# Altium schematic symbol library CurrentSensor.SchLib: 5 symbols
Pins are listed as number, name and electrical type; pins without a type are passive.

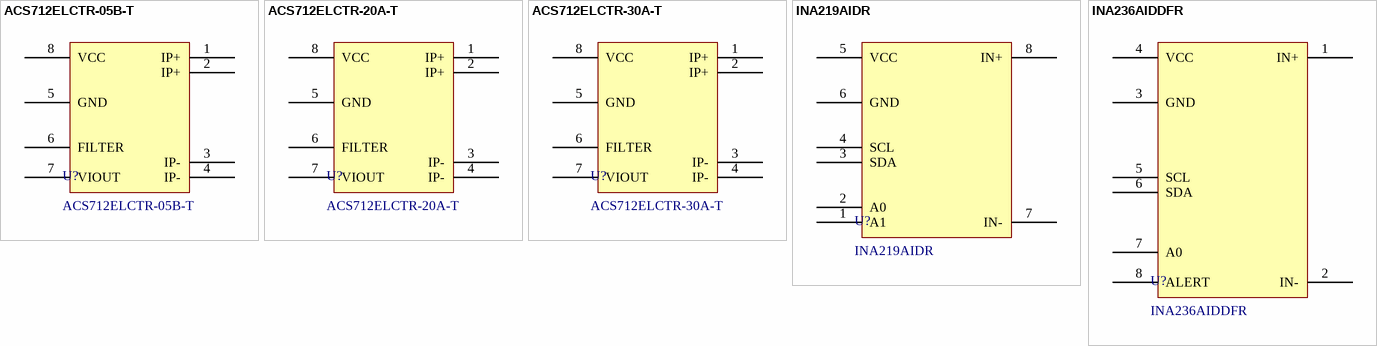
[diagram p0: symbols ACS712ELCTR-05B-T to INA236AIDDFR]

## ACS712ELCTR-05B-T
designator U?
Board Mount Current Sensors For New Designs Use ACS724/5; Manufacturer: Allegro MicroSystems; Supply Voltage - Max: 5.5 V; Supply Voltage - Min: 4.5 V; Current Rating: 10 mA; Sensor Type: Current Sense; ComponentLink1Description: Datasheet; ComponentLink1URL: https://www.mouser.com/datasheet/2/1115/ACS712_Datasheet-3178682.pdf; Manufacturer Part Number: ACS712ELCTR-05B-T; Mount: SMD/SMT; Supplier 1: Mouser; Supplier 1 Part Number: 250-712ELCTR05BT; Supplier 1 URL: https://www.mouser.com/ProductDetail/Allegro-MicroSystems/ACS712ELCTR-05B-T?qs=pUKx8fyJudDs65Rkshv5ug%3D%3D; Supplier 2: Digi-Key; Supplier 2 Part Number: N/A; Supplier 2 URL: N/A; Supplier 3: thegioiic; Supplier 3 Part Number: N/A; Supplier 3 URL: N/A; Value: ACS712ELCTR-05B-T; Accuracy: N/A; Type: Linear Hall; Operating Temperature Max: + 85 C; Operating Temperature Min: - 40 C; Package / Case: SOIC-8; Packaging: Tape and Reel; LCSC Part #: C44471; Sensing Method: N/A
footprint ACS712
pins: 1 IP+, 2 IP+, 3 IP-, 4 IP-, 5 GND, 6 FILTER, 7 VIOUT, 8 VCC

## ACS712ELCTR-20A-T
designator U?
Board Mount Current Sensors For New Designs Use ACS724/5; Manufacturer: Allegro MicroSystems; Supply Voltage - Max: 5.5 V; Supply Voltage - Min: 4.5 V; Current Rating: 10 mA; Sensor Type: Current Sense; ComponentLink1Description: Datasheet; ComponentLink1URL: https://www.mouser.com/datasheet/2/1115/ACS712_Datasheet-3178682.pdf; Manufacturer Part Number: ACS712ELCTR-20A-T; Mount: SMD/SMT; Supplier 1: Mouser; Supplier 1 Part Number: 250-712ELCTR20AT; Supplier 1 URL: https://www.mouser.com/ProductDetail/Allegro-MicroSystems/ACS712ELCTR-20A-T?qs=pUKx8fyJudBUdhIPMFjOBQ%3D%3D; Supplier 2: Digi-Key; Supplier 2 Part Number: N/A; Supplier 2 URL: N/A; Supplier 3: thegioiic; Supplier 3 Part Number: N/A; Supplier 3 URL: N/A; Value: ACS712ELCTR-20A-T; Accuracy: N/A; Type: Linear Hall; Operating Temperature Max: + 85 C; Operating Temperature Min: - 40 C; Package / Case: SOIC-8; Packaging: Tape and Reel; LCSC Part #: C10681; Sensing Method: N/A
footprint ACS712
pins: 1 IP+, 2 IP+, 3 IP-, 4 IP-, 5 GND, 6 FILTER, 7 VIOUT, 8 VCC

## ACS712ELCTR-30A-T
designator U?
Board Mount Current Sensors For New Designs Use ACS724/5; Manufacturer: Allegro MicroSystems; Supply Voltage - Max: 5.5 V; Supply Voltage - Min: 4.5 V; Current Rating: 10 mA; Sensor Type: Current Sense; ComponentLink1Description: Datasheet; ComponentLink1URL: https://www.mouser.com/datasheet/2/1115/ACS712_Datasheet-3178682.pdf; Manufacturer Part Number: ACS712ELCTR-30A-T; Mount: SMD/SMT; Supplier 1: Mouser; Supplier 1 Part Number: 250-712ELCTR30AT; Supplier 1 URL: https://www.mouser.com/ProductDetail/Allegro-MicroSystems/ACS712ELCTR-30A-T?qs=pUKx8fyJudCUnx4DKHyK4g%3D%3D; Supplier 2: Digi-Key; Supplier 2 Part Number: N/A; Supplier 2 URL: N/A; Supplier 3: thegioiic; Supplier 3 Part Number: N/A; Supplier 3 URL: N/A; Value: ACS712ELCTR-30A-T; Accuracy: N/A; Type: Linear Hall; Operating Temperature Max: + 85 C; Operating Temperature Min: - 40 C; Package / Case: SOIC-8; Packaging: Tape and Reel; LCSC Part #: C9932; Sensing Method: N/A
footprint ACS712
pins: 1 IP+, 2 IP+, 3 IP-, 4 IP-, 5 GND, 6 FILTER, 7 VIOUT, 8 VCC

## INA219AIDR
designator U?
Current & Power Monitors & Regulators Zero-Drift,Bi-Dir Crnt/Pwr Monitor; Manufacturer: Texas Instruments; Supply Voltage - Max: 5.5 V; Supply Voltage - Min: 3 V; Accuracy: 0.5 %; Current Rating: 1 mA; Sensing Method: High Side; ComponentLink1Description: Datasheet; ComponentLink1URL: https://www.ti.com/lit/gpn/ina219; Manufacturer Part Number: INA219AIDR; Mount: SMD/SMT; Supplier 1: Mouser; Supplier 1 Part Number: 595-INA219AIDR; Supplier 1 URL: https://www.mouser.com/ProductDetail/Texas-Instruments/INA219AIDR?qs=XGzIaZb%2FFYIE5YcOHTnKDA%3D%3D; Supplier 2: Digi-Key; Supplier 2 Part Number: N/A; Supplier 2 URL: N/A; Supplier 3: thegioiic; Supplier 3 Part Number: N/A; Supplier 3 URL: N/A; Value: INA219AIDR; Operating Temperature Max: + 85 C; Operating Temperature Min: - 40 C; Package / Case: SOIC-8; Packaging: Tape and Reel; LCSC Part #: C138706; Sensor Type: N/A
footprint INA219-SOIC
pins: 1 A1, 2 A0, 3 SDA, 4 SCL, 5 VCC, 6 GND, 7 IN-, 8 IN+

## INA236AIDDFR
designator U?
Current & Power Monitors & Regulators 48-V, 16-bit ultraprecise I²C output digital power monitor with alert in WCSP 8-SOT-23-THIN -40 to 125; Manufacturer: Texas Instruments; Supply Voltage - Max: 5.5 V; Supply Voltage - Min: 1.7 V; Accuracy: 0.5 %; Current Rating: 1 mA; Sensing Method: High Side/Low Side; ComponentLink1Description: Datasheet; ComponentLink1URL: https://www.ti.com/lit/gpn/ina236; Manufacturer Part Number: INA236AIDDFR; Mount: SMD/SMT; Supplier 1: Mouser; Supplier 1 Part Number: 595-INA236AIDDFR; Supplier 1 URL: https://www.mouser.com/ProductDetail/Texas-Instruments/INA236AIDDFR?qs=amGC7iS6iy%252BrvgC7WgsvdQ%3D%3D; Supplier 2: Digi-Key; Supplier 2 Part Number: N/A; Supplier 2 URL: N/A; Supplier 3: thegioiic; Supplier 3 Part Number: N/A; Supplier 3 URL: N/A; Value: INA236AIDDFR; Operating Temperature Max: + 85 C; Operating Temperature Min: - 40 C; Package / Case: SOIC-8; Packaging: Tape and Reel; LCSC Part #: C5443912; Sensor Type: N/A
footprint INA236AIDDFR (TSOP, 8-Leads, Body 2.90x1.60mm, Pitch 0.65mm, IPC Medium Density)
pins: 1 IN+, 2 IN-, 3 GND, 4 VCC, 5 SCL, 6 SDA, 7 A0, 8 ALERT